# Altium footprint library CAPPR10-22-35.PcbLib: 1 footprints
Each footprint in its own frame and in the unit in brackets; x right, y up, seen from the top. Pads: shape width x height; smd on the part's side, far side on the other; paste and mask are expansions set on the pad; w line width, h text height; cw(c..) or ccw(c..) is an arc to the next point about the centre after c.
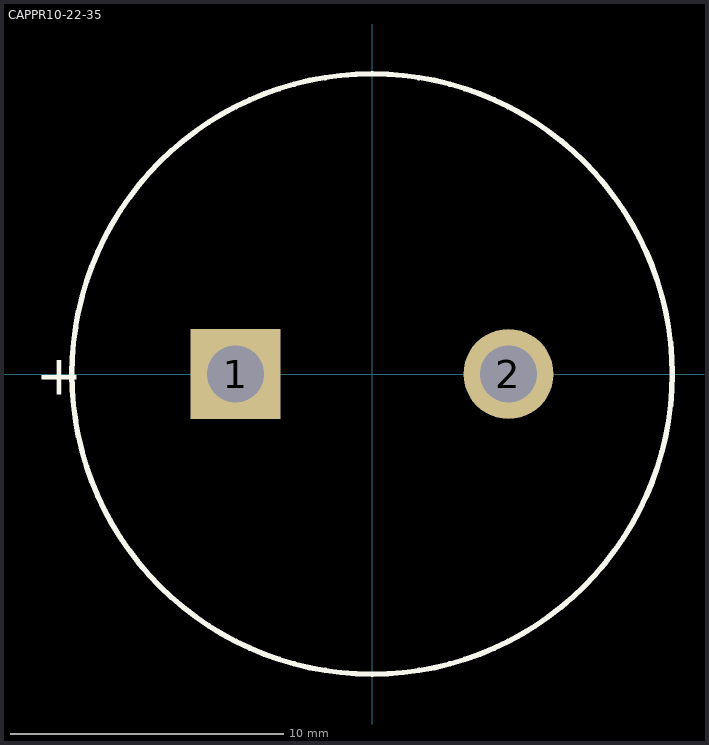
[diagram p0: the footprint, top view; thin cyan lines are the x and y axes]

## CAPPR10-22-35 [mil]
pads (2):
  rect 130x130 hole 82.68: 1(-196.85,0)
  round 130 hole 82.68: 2(196.85,0)
Top Overlay:
  circle w7.87: c0,0 r433
  text "+" at -485,-30 h59.06
3D body: height 1378, standoff 0, extent -429.58,-432.14 433.01,432.15